# Altium footprint library lib_amphenol.PcbLib: 1 footprints
Each footprint in its own frame and in the unit in brackets; x right, y up, seen from the top. Pads: shape width x height; smd on the part's side, far side on the other; paste and mask are expansions set on the pad; w line width, h text height; cw(c..) or ccw(c..) is an arc to the next point about the centre after c.
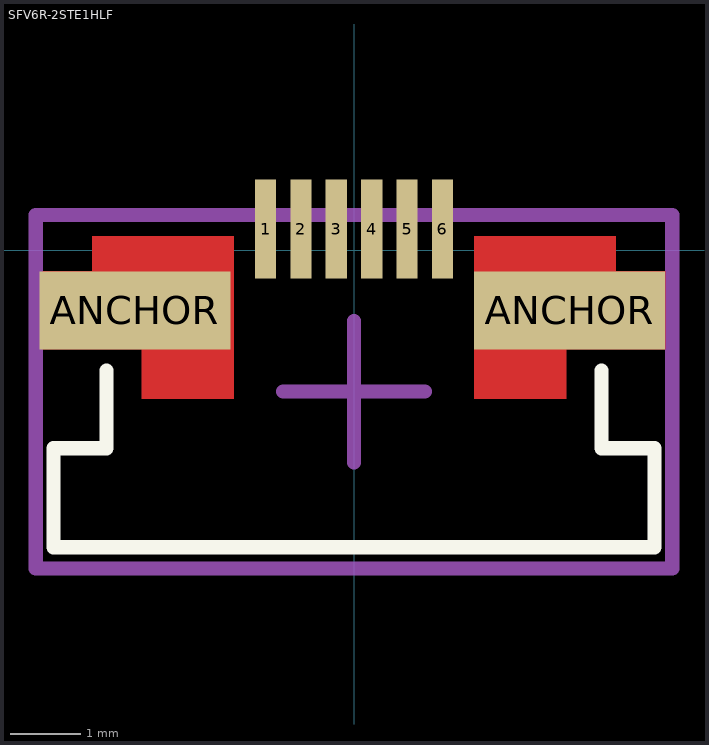
[diagram p0: the footprint, top view; thin cyan lines are the x and y axes]

## SFV6R-2STE1HLF [mm] "CONN FFC FPC TOP 6POS 0.50MM R/A"
pads (8):
  rect 0.3x1.4 smd: 1(-1.25,0.3) 2(-0.75,0.3) 3(-0.25,0.3) 4(0.25,0.3) 5(0.75,0.3) 6(1.25,0.3)
  rect 2.7x1.1 smd: ANCHOR(-3.1,-0.85) ANCHOR(3.05,-0.85)
Top Layer:
  region: -1.7,0.2 -3.7,0.2 -3.7,-0.3 -4.4,-0.3 -4.4,-1.4 -3,-1.4 -3,-2.1 -1.7,-2.1
  region: 1.7,0.2 3.7,0.2 3.7,-0.3 4.4,-0.3 4.4,-1.4 3,-1.4 3,-2.1 1.7,-2.1
Top Overlay:
  lines w0.2: -3.5,-1.7 -3.5,-2.8 -4.25,-2.8 -4.25,-4.2 0,-4.2 4.25,-4.2 4.25,-2.8 3.5,-2.8 3.5,-1.7
Mechanical 15:
  lines w0.2: -1,-2 1,-2 ; 0,-3 0,-1 ; -4.5,-4.5 0,-4.5 4.5,-4.5 4.5,0.5 4.3,0.5 0,0.5 -4.3,0.5 -4.5,0.5 -4.5,-4.5
3D body "ssfv6r_2stlf.stp": height 1.87, standoff 0, extent -4.25,-4.2 4.25,0.7